# EAGLE library part RJ45_2SH (library Domino)
RJ45 8P8C Modular Jack, 2 Shield Pads
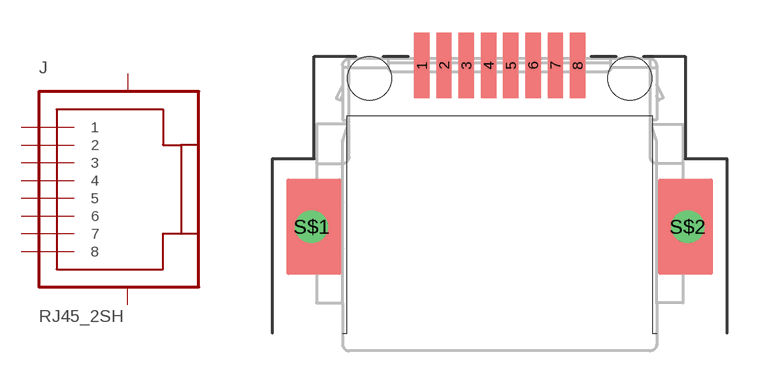
[diagram p45: symbol with the pads of RJA-208863-10700; footprint RJA-208863-10700]

Designator prefix J

## RJ45_2SH  [RJA-208863-10700]
1  1  pas
2  2  pas
3  3  pas
4  4  pas
5  5  pas
6  6  pas
7  7  pas
8  8  pas
S$1  SHIELD  pas
S$2  SHIELD  pas

## Footprint RJA-208863-10700 (pad centres in mm)
RJ45 8P8C 1.02 mm Pitch Connector, Subside 2.9 mm with Post DIP + SMT Type
smd 0.7 x 3: 1 -3.57,0.6; 2 -2.55,0.6; 3 -1.53,0.6; 4 -0.51,0.6; 5 0.51,0.6; 6 1.53,0.6; 7 2.55,0.6; 8 3.57,0.6
drill 1: S$1 -8.62,-6.8; S$2 8.62,-6.8
hole 2 at -5.97,0
hole 2 at 5.97,0